# EAGLE library part ATMEGA16M1/32M1/64M1 (library hsk_2012)
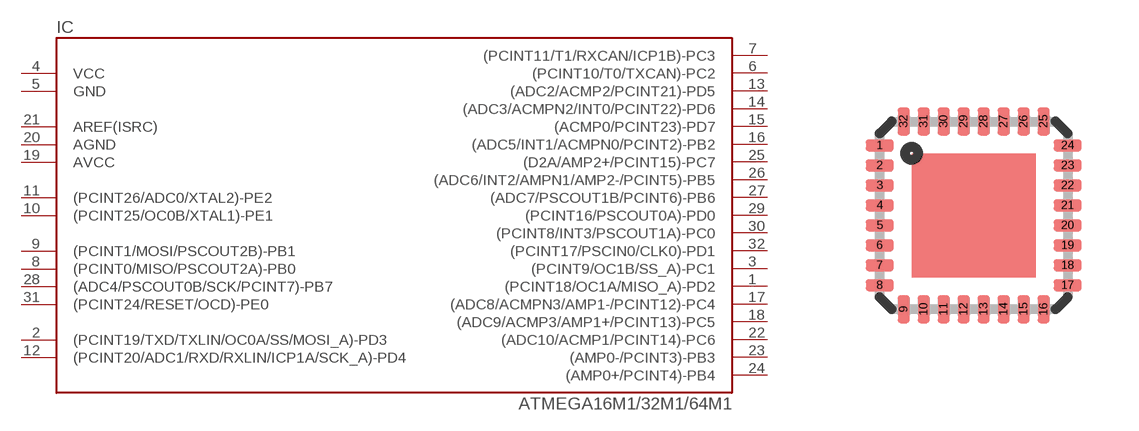
[diagram p46: symbol with the pads of MLF32; footprint MLF32]

Designator prefix IC

## ATMEGA16M1/32M1/64M1  [MLF32]
1  (PCINT18/OC1A/MISO_A)-PD2
2  (PCINT19/TXD/TXLIN/OC0A/SS/MOSI_A)-PD3
3  (PCINT9/OC1B/SS_A)-PC1
4  VCC
5  GND
6  (PCINT10/T0/TXCAN)-PC2
7  (PCINT11/T1/RXCAN/ICP1B)-PC3
8  (PCINT0/MISO/PSCOUT2A)-PB0
9  (PCINT1/MOSI/PSCOUT2B)-PB1
10  (PCINT25/OC0B/XTAL1)-PE1
11  (PCINT26/ADC0/XTAL2)-PE2
12  (PCINT20/ADC1/RXD/RXLIN/ICP1A/SCK_A)-PD4
13  (ADC2/ACMP2/PCINT21)-PD5
14  (ADC3/ACMPN2/INT0/PCINT22)-PD6
15  (ACMP0/PCINT23)-PD7
16  (ADC5/INT1/ACMPN0/PCINT2)-PB2
17  (ADC8/ACMPN3/AMP1-/PCINT12)-PC4
18  (ADC9/ACMP3/AMP1+/PCINT13)-PC5
19  AVCC
20  AGND
21  AREF(ISRC)
22  (ADC10/ACMP1/PCINT14)-PC6
23  (AMP0-/PCINT3)-PB3
24  (AMP0+/PCINT4)-PB4
25  (D2A/AMP2+/PCINT15)-PC7
26  (ADC6/INT2/AMPN1/AMP2-/PCINT5)-PB5
27  (ADC7/PSCOUT1B/PCINT6)-PB6
28  (ADC4/PSCOUT0B/SCK/PCINT7)-PB7
29  (PCINT16/PSCOUT0A)-PD0
30  (PCINT8/INT3/PSCOUT1A)-PC0
31  (PCINT24/RESET/OCD)-PE0
32  (PCINT17/PSCIN0/CLK0)-PD1

## Footprint MLF32 (pad centres in mm)
32M1-A Micro Lead Frame package (MLF)
smd 0.7 x 0.3: 1 -2.35,1.75; 2 -2.35,1.25; 3 -2.35,0.75; 4 -2.35,0.25; 5 -2.35,-0.25; 6 -2.35,-0.75; 7 -2.35,-1.25; 8 -2.35,-1.75; 17 2.35,-1.75; 18 2.35,-1.25; 19 2.35,-0.75; 20 2.35,-0.25; 21 2.35,0.25; 22 2.35,0.75; 23 2.35,1.25; 24 2.35,1.75
smd 0.3 x 0.7: 9 -1.75,-2.35; 10 -1.25,-2.35; 11 -0.75,-2.35; 12 -0.25,-2.35; 13 0.25,-2.35; 14 0.75,-2.35; 15 1.25,-2.35; 16 1.75,-2.35; 25 1.75,2.35; 26 1.25,2.35; 27 0.75,2.35; 28 0.25,2.35; 29 -0.25,2.35; 30 -0.75,2.35; 31 -1.25,2.35; 32 -1.75,2.35